# Altium schematic symbol library SamacSys.SchLib: 21 symbols
Pins are listed as number, name and electrical type; pins without a type are passive.

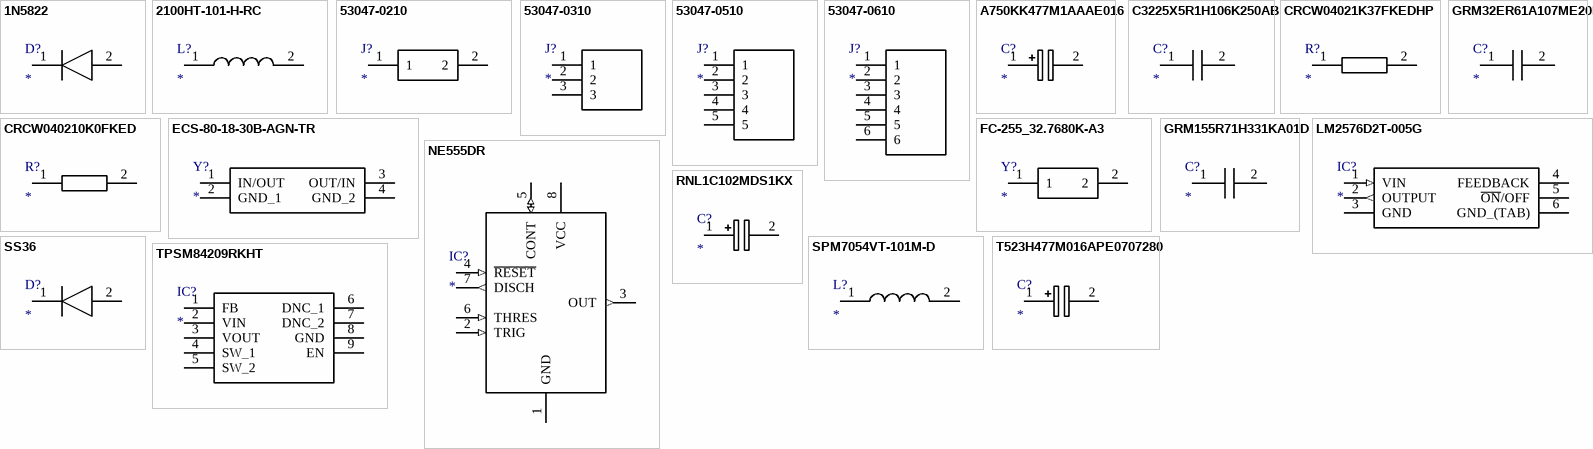
[diagram p0: symbols 1N5822 to TPSM84209RKHT]

## 1N5822
designator D?
Diode; Manufacturer_Name: STMicroelectronics; Manufacturer_Part_Number: 1N5822; Datasheet Link: http://www.st.com/web/en/resource/technical/document/datasheet/CD00001626.pdf; Mouser Part Number: 511-1N5822; Mouser Price/Stock: https://www.mouser.com/Search/Refine.aspx?Keyword=511-1N5822; RS Part Number: 1785040; RS Price/Stock: http://uk.rs-online.com/web/p/products/1785040
footprint DIOAD3070W130L950D530
pins: 1 A, 2 K

## 2100HT-101-H-RC
designator L?
Inductor; Manufacturer_Name: Bourns; Manufacturer_Part_Number: 2100HT-101-H-RC; Allied_Number: 70154765; Datasheet Link: http://www.bourns.com/docs/Product-Datasheets/2100ht_series.pdf; Mouser Part Number: 652-2100HT-101-H-RC; Mouser Price/Stock: https://www.mouser.com/Search/Refine.aspx?Keyword=652-2100HT-101-H-RC; RS Part Number: 8603913; RS Price/Stock: http://uk.rs-online.com/web/p/products/8603913; Allied Price/Stock: https://www.alliedelec.com/bourns-2100ht-101-h-rc/70154765/
footprint 2100HT-101-H-RC
pins: 1, 2

## 53047-0210
designator J?
Connector; Manufacturer_Name: Molex; Manufacturer_Part_Number: 53047-0210; Datasheet Link: http://docs-emea.rs-online.com/webdocs/13c4/0900766b813c4433.pdf; Mouser Part Number: 538-53047-0210; Mouser Price/Stock: https://www.mouser.com/Search/Refine.aspx?Keyword=538-53047-0210; RS Part Number: 2799213P; RS Price/Stock: http://uk.rs-online.com/web/p/products/2799213P
footprint 53047-0210
pins: 1, 2

## 53047-0310
designator J?
Connector; Manufacturer_Name: Molex; Manufacturer_Part_Number: 53047-0310; Allied_Number: 70266925; Datasheet Link: http://www.molex.com/pdm_docs/sd/530470310_sd.pdf; Height: 4.4mm; Mouser Part Number: 538-53047-0310; Mouser Price/Stock: https://www.mouser.com/Search/Refine.aspx?Keyword=538-53047-0310; RS Part Number: 3191064P; RS Price/Stock: http://uk.rs-online.com/web/p/products/3191064P; Allied Price/Stock: https://www.alliedelec.com/molex-incorporated-53047-0310/70266925/
footprint SHDR3W35P0X125_1X3_550X320X440P
pins: 1, 2, 3

## 53047-0510
designator J?
Connector; Manufacturer_Name: Molex; Manufacturer_Part_Number: 53047-0510; Allied_Number: 70266929; Datasheet Link: http://www.molex.com/webdocs/datasheets/pdf/en-us/0530470510_PCB_HEADERS.pdf; Height: 4.2mm; Mouser Part Number: 538-53047-0510; Mouser Price/Stock: https://www.mouser.com/Search/Refine.aspx?Keyword=538-53047-0510; RS Part Number: 4476596P; RS Price/Stock: http://uk.rs-online.com/web/p/products/4476596P; Allied Price/Stock: http://www.alliedelec.com/molex-incorporated-53047-0510/70266929/
footprint SHDR5W36P0X125_1X5_800X320X420P
pins: 1, 2, 3, 4, 5

## 53047-0610
designator J?
Connector; Manufacturer_Name: Molex; Manufacturer_Part_Number: 53047-0610; Allied_Number: 70266941; Datasheet Link: http://www.molex.com/webdocs/datasheets/pdf/en-us//0530470610_PCB_HEADERS.pdf; Height: 4.4mm; Mouser Part Number: 538-53047-0610; Mouser Price/Stock: https://www.mouser.com/Search/Refine.aspx?Keyword=538-53047-0610; RS Part Number: 2799235P; RS Price/Stock: http://uk.rs-online.com/web/p/products/2799235P; Allied Price/Stock: https://www.alliedelec.com/molex-incorporated-53047-0610/70266941/
footprint SHDR6W35P0X125_1X6_925X320X440P
pins: 1, 2, 3, 4, 5, 6

## A750KK477M1AAAE016
designator C?
Capacitor Polarised; Manufacturer_Name: Kemet; Manufacturer_Part_Number: A750KK477M1AAAE016; Allied_Number: 70949986; Datasheet Link: https://content.kemet.com/datasheets/KEM_A4067_A750.pdf; Height: 9mm; Mouser Part Number: 80-A750KK477M1AAAE16; Mouser Price/Stock: https://www.mouser.com/Search/Refine.aspx?Keyword=80-A750KK477M1AAAE16; RS Part Number: 1248263; RS Price/Stock: http://uk.rs-online.com/web/p/products/1248263; Allied Price/Stock: https://www.alliedelec.com/kemet-a750kk477m1aaae016/70949986/
footprint CAPPRD350W65D800H900
pins: 1 +, 2 -

## C3225X5R1H106K250AB
designator C?
Capacitor; Manufacturer_Name: TDK; Manufacturer_Part_Number: C3225X5R1H106K250AB; Datasheet Link: https://product.tdk.com/info/en/catalog/datasheets/mlcc_commercial_midvoltage_en.pdf; Height: 2.3mm; Mouser Part Number: 810-C3225X5R1H106K; Mouser Price/Stock: https://www.mouser.com/Search/Refine.aspx?Keyword=810-C3225X5R1H106K
footprint CAPC3225X230N
pins: 1, 2

## CRCW04021K37FKEDHP
designator R?
Resistor; Manufacturer_Name: Vishay; Manufacturer_Part_Number: CRCW04021K37FKEDHP; Datasheet Link: http://www.vishay.com/docs/20035/dcrcwe3.pdf; Height: 0.4mm
footprint RESC1005X40N
pins: 1, 2

## CRCW040210K0FKED
designator R?
Resistor; Manufacturer_Name: Vishay; Manufacturer_Part_Number: CRCW040210K0FKED; Allied_Number: 70202520; Datasheet Link: http://www.vishay.com/docs/20035/dcrcwe3.pdf; Height: 0.4mm; Mouser Part Number: 71-CRCW0402-10K-E3; Mouser Price/Stock: https://www.mouser.com/Search/Refine.aspx?Keyword=71-CRCW0402-10K-E3; RS Part Number: 1819172; RS Price/Stock: http://uk.rs-online.com/web/p/products/1819172; Allied Price/Stock: http://www.alliedelec.com/vishay-dale-crcw040210k0fked/70202520/
footprint RESC1005X40N
pins: 1, 2

## ECS-80-18-30B-AGN-TR
designator Y?
Crystal or Oscillator; Manufacturer_Name: ECS; Manufacturer_Part_Number: ECS-80-18-30B-AGN-TR; Datasheet Link: http://www.ecsxtal.com/store/pdf/ecx_53b.pdf; Height: 0.85mm; Mouser Part Number: 520-80-18-30B-AGNT; Mouser Price/Stock: https://www.mouser.com/Search/Refine.aspx?Keyword=520-80-18-30B-AGNT
footprint ECS801830BAGNTR
pins: 1 IN/OUT, 2 GND_1, 3 OUT/IN, 4 GND_2

## FC-255_32.7680K-A3
designator Y?
Crystal or Oscillator; Manufacturer_Name: Epson Timing; Manufacturer_Part_Number: FC-255 32.7680K-A3; Description: Crystals 32.768KHz 12.5pF 20ppm -40c +85C; Datasheet Link: https://support.epson.biz/td/api/doc_check.php?dl=brief_FC-145&lang=en; Mouser Part Number: 732-FC-25532.76KA3; Mouser Price/Stock: https://www.mouser.com/Search/Refine.aspx?Keyword=732-FC-25532.76KA3
footprint FC-255
pins: 1, 2

## GRM32ER61A107ME20L
designator C?
Capacitor; Manufacturer_Name: Murata Electronics; Manufacturer_Part_Number: GRM32ER61A107ME20L; Datasheet Link: http://docs-asia.electrocomponents.com/webdocs/145f/0900766b8145fc64.pdf; Height: 2.7mm; Mouser Part Number: 81-GRM32ER61A107ME0L; Mouser Price/Stock: https://www.mouser.com/Search/Refine.aspx?Keyword=81-GRM32ER61A107ME0L; RS Part Number: 8851960P; RS Price/Stock: http://uk.rs-online.com/web/p/products/8851960P
footprint CAPC3225X270N
pins: 1, 2

## GRM155R71H331KA01D
designator C?
Capacitor; Manufacturer_Name: Murata Electronics; Manufacturer_Part_Number: GRM155R71H331KA01D; Datasheet Link: http://www.murata.com/~/media/webrenewal/support/library/catalog/products/capacitor/mlcc/c02e.pdf; Height: 0.55mm; Mouser Part Number: 81-GRM36X331K50; Mouser Price/Stock: https://www.mouser.com/Search/Refine.aspx?Keyword=81-GRM36X331K50; RS Part Number: 7235294; RS Price/Stock: https://uk.rs-online.com/web/p/products/7235294
footprint CAPC1005X55N
pins: 1, 2

## LM2576D2T-005G
designator IC?
Integrated Circuit; Manufacturer_Name: ON Semiconductor; Manufacturer_Part_Number: LM2576D2T-005G; Allied_Number: 70466105; Datasheet Link: http://www.onsemi.com/pub/Collateral/LM2576-D.PDF; Mouser Part Number: 863-LM2576D2T-005G; Mouser Price/Stock: https://www.mouser.com/Search/Refine.aspx?Keyword=863-LM2576D2T-005G; RS Part Number: 1630438; RS Price/Stock: http://uk.rs-online.com/web/p/products/1630438; Allied Price/Stock: http://www.alliedelec.com/on-semiconductor-lm2576d2t-005g/70466105/
footprint D2PAK-936A-02-C
pins: 1 VIN (in), 2 OUTPUT (out), 3 GND (power), 4 FEEDBACK, 5 ~{ON}/OFF, 6 GND_(TAB) (power)

## NE555DR
designator IC?
Integrated Circuit; Manufacturer_Name: Texas Instruments; Manufacturer_Part_Number: NE555DR; Datasheet Link: http://www.ti.com/lit/ds/symlink/ne555.pdf; Height: 1.75mm; RS Part Number: 1218414; RS Price/Stock: http://uk.rs-online.com/web/p/products/1218414; Mouser Part Number: 595-NE555DR; Mouser Price/Stock: https://www.mouser.com/Search/Refine.aspx?Keyword=595-NE555DR
footprint SOIC127P600X175-8N
pins: 1 GND (power), 2 TRIG (in), 3 OUT (out), 4 ~{RESET} (in), 5 CONT (io), 6 THRES (in), 7 DISCH (out), 8 VCC (power)

## RNL1C102MDS1KX
designator C?
Capacitor Polarised; Manufacturer_Name: Nichicon; Manufacturer_Part_Number: RNL1C102MDS1KX; Allied_Number: 71108220; Datasheet Link: http://www.nichicon.co.jp/english/products/pdfs/e-rnl.pdf; Height: 21.5mm; Mouser Part Number: 647-RNL1C102MDS1KX; Mouser Price/Stock: https://www.mouser.com/Search/Refine.aspx?Keyword=647-RNL1C102MDS1KX; Allied Price/Stock: https://www.alliedelec.com/nichicon-rnl1c102mds1kx/71108220/
footprint CAPPRD350W60D800H2150
pins: 1 +, 2 -

## SPM7054VT-101M-D
designator L?
Inductor; Manufacturer_Name: TDK; Manufacturer_Part_Number: SPM7054VT-101M-D; Datasheet Link: https://product.tdk.com/info/en/catalog/datasheets/inductor_automotive_power_spm7054vt-d_en.pdf; Height: 5.4mm; Mouser Part Number: 810-SPM7054VT-101M-D; Mouser Price/Stock: https://www.mouser.com/Search/Refine.aspx?Keyword=810-SPM7054VT-101M-D
footprint INDPM7570X540N
pins: 1, 2

## SS36
designator D?
Diode; Manufacturer_Name: Fairchild Semiconductor; Manufacturer_Part_Number: SS36; Datasheet Link: https://www.fairchildsemi.com/datasheets/SS/SS36.pdf; Height: 2.65mm; Mouser Part Number: 512-SS36; Mouser Price/Stock: https://www.mouser.com/Search/Refine.aspx?Keyword=512-SS36; RS Part Number: 9034425P; RS Price/Stock: http://uk.rs-online.com/web/p/products/9034425P
footprint DIOM8059X265N
pins: 1 K, 2 A

## T523H477M016APE0707280
designator C?
Capacitor Polarised; Manufacturer_Name: Kemet; Manufacturer_Part_Number: T523H477M016APE0707280; Datasheet Link: https://api.kemet.com/component-edge/download/datasheet/T523H477M016APE0707280.pdf; Height: 2mm; Mouser Part Number: 80-T523H477M16P070LR; Mouser Price/Stock: https://www.mouser.com/Search/Refine.aspx?Keyword=80-T523H477M16P070LR
footprint CAPPM7360X200N
pins: 1 +, 2 -

## TPSM84209RKHT
designator IC?
Integrated Circuit; Manufacturer_Name: Texas Instruments; Manufacturer_Part_Number: TPSM84209RKHT; Datasheet Link: http://www.ti.com/lit/gpn/tpsm84209; Height: 2.1mm; Mouser Part Number: 595-TPSM84209RKHT; Mouser Price/Stock: https://www.mouser.com/Search/Refine.aspx?Keyword=595-TPSM84209RKHT
footprint TPSM84209RKHT
pins: 1 FB, 2 VIN, 3 VOUT, 4 SW_1, 5 SW_2, 6 DNC_1, 7 DNC_2, 8 GND, 9 EN